# EAGLE library part MSP430-JTAG (library Pygmy)
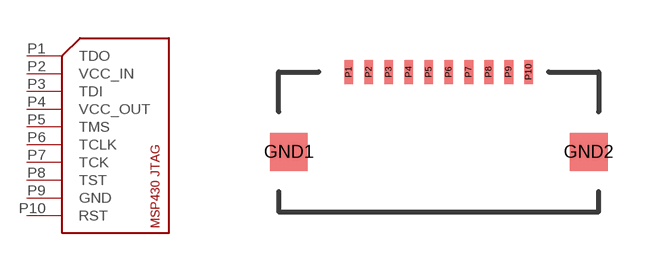
[diagram p86: symbol with the pads of FCI-FFC-10P-51281-1494; footprint FCI-FFC-10P-51281-1494]

Designator prefix -

## MSP430-JTAG  [FCI-FFC-10P-51281-1494]
P1  TDO
P2  VCC_IN
P3  TDI
P4  VCC_OUT
P5  TMS
P6  TCLK
P7  TCK
P8  TST
P9  GND
P10  RST

## Footprint FCI-FFC-10P-51281-1494 (pad centres in mm)
smd 0.95 x 0.95: GND1 -3.75,-2; GND2 3.75,-2
smd 0.225 x 0.6: P1 -2.25,0; P2 -1.75,0; P3 -1.25,0; P4 -0.75,0; P5 -0.25,0; P6 0.25,0; P7 0.75,0; P8 1.25,0; P9 1.75,0; P10 2.25,0